# Altium footprint library OSC.PcbLib: 12 footprints
Each footprint in its own frame and in the unit in brackets; x right, y up, seen from the top. Pads: shape width x height; smd on the part's side, far side on the other; paste and mask are expansions set on the pad; w line width, h text height; cw(c..) or ccw(c..) is an arc to the next point about the centre after c.
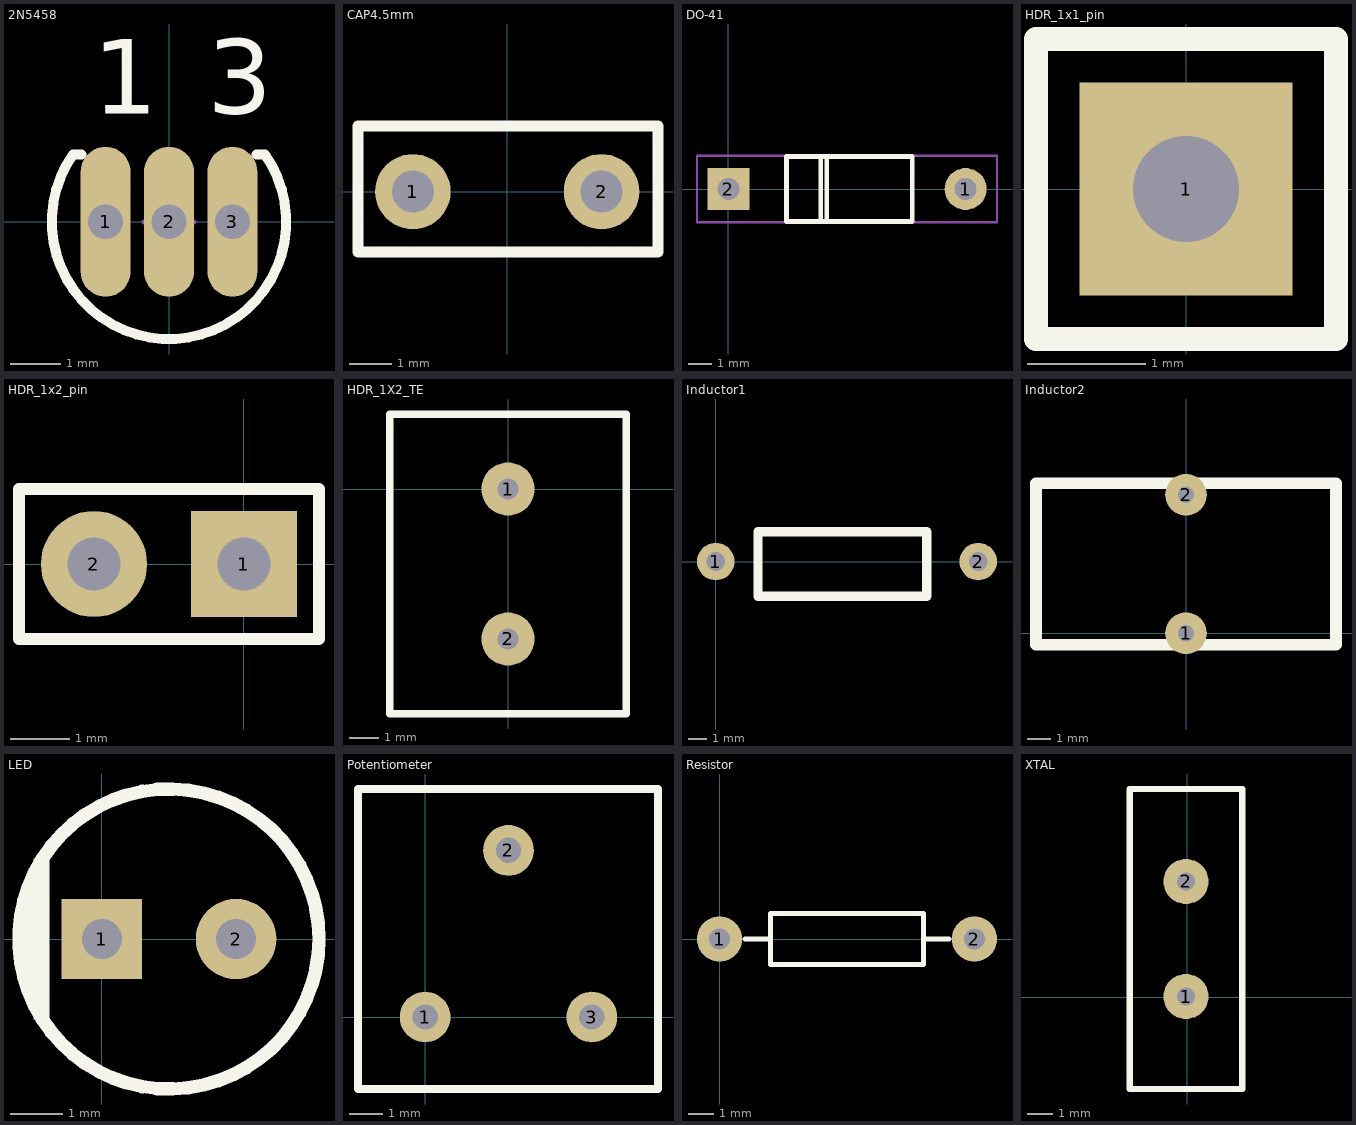
[diagram p0: the footprints below, top view; thin cyan lines are the x and y axes]

## 2N5458 [mm] "Jfet"
pads (3):
  oval 1x3 hole 0.7: 1(-1.27,0) 2(0,0) 3(1.27,0)
Top Overlay:
  lines w0.2: -1.75,1.35 -1.92,1.35 ccw(c0,0) 1.92,1.35 1.75,1.35
  text "3" at 0.762,2.159 h1.5
  text "1" at -1.524,2.159 h1.5
Mechanical 15:
  lines w0.1: -0.5,0 0.5,0 ; 0,-0.5 0,0.5

## CAP4.5mm [mm]
pads (2):
  round 1.8 hole 1: 1(-2.25,0) 2(2.25,0)
Top Overlay:
  lines w0.254: -3.559,-1.438 3.597,-1.438 3.597,1.566 -3.559,1.566 -3.559,-1.438
3D body "c320c104k1r5ta.stp": height 7.36, standoff -7, extent -2.54,-1.515 2.54,1.67

## DO-41 [mm]
pads (2):
  round 1.8 hole 0.94: 1(10.2,0)
  rect 1.8x1.8 hole 0.94: 2(0,0)
Top Overlay:
  lines w0.2: 3.972,-1.4 3.972,1.4 ; 4.222,-1.4 4.222,1.4 ; 7.9,-1.4 2.5,-1.4 2.5,1.4 7.9,1.4 7.9,-1.397
Mechanical 15:
  lines w0.1: -1.35,-1.425 -1.35,1.425 11.55,1.425 11.55,-1.425 -1.35,-1.425

## HDR_1x1_pin [mm]
pads (1):
  rect 1.8x1.8 hole 0.9: 1(0,0)
Top Overlay:
  lines w0.2: -1.27,-1.27 1.27,-1.27 1.27,1.27 -1.27,1.27 -1.27,-1.27

## HDR_1x2_pin [mm]
pads (2):
  rect 1.8x1.8 hole 0.9: 1(0,0)
  round 1.8 hole 0.9: 2(-2.54,0)
Top Overlay:
  lines w0.2: -3.81,-1.27 -3.81,1.27 1.27,1.27 1.27,-1.27 -3.81,-1.27

## HDR_1X2_TE [mm] "282836-2"
pads (2):
  round 1.8 hole 0.7: 1(0,0) 2(0,-5.08)
Top Overlay:
  lines w0.254: -4,-7.62 -4,2.54 4,2.54 4,-7.62 -4,-7.62

## Inductor1 [mm]
pads (2):
  round 2 hole 1: 1(0,0) 2(14,0)
Top Overlay:
  lines w0.5: 2.25,-1.84 2.25,1.58 11.25,1.58 11.25,-1.84 2.25,-1.84

## Inductor2 [mm]
pads (2):
  round 1.8 hole 0.7: 1(0,0) 2(0,6)
Top Overlay:
  lines w0.5: -6.5,-0.5 -6.5,6.5 6.5,6.5 6.5,-0.5 -6.5,-0.5

## LED [mil]
pads (2):
  rect 60x60 hole 30: 1(0,0)
  round 60 hole 30: 2(100,0)
Top Overlay:
  circle w10: c50,0 r111.8
  rectangle: -51,-60 -39,60
  rectangle: -58,-40 -50,41

## Potentiometer [mil]
pads (3):
  round 60 hole 30: 1(0,0) 2(98.43,196.85) 3(196.85,0)
Top Overlay:
  lines w10: -79.33,-85 -79.33,269.33 275,269.33 275,-85 -79.33,-85

## Resistor [mm] "Res_2mm_AxialTH"
pads (2):
  round 1.8 hole 0.85: 1(0,0) 2(10.16,0)
Top Overlay:
  lines w0.2: 1.016,0 2.032,0 ; 8.128,0 9.144,0 ; 2.032,-1.016 8.128,-1.016 8.128,1.016 2.032,1.016 2.032,-1.016
3D body "User Library-Res40-Axial 0_25W-0_12R.STEP": height 2.41, standoff -2, extent -0.3,-1.191 10.46,1.191

## XTAL [mm]
pads (2):
  round 1.8 hole 0.7: 1(-0.051,0.023) 2(-0.051,4.623)
Top Overlay:
  lines w0.254: -2.301,-3.677 -2.301,8.323 2.199,8.323 2.199,-3.677 -2.301,-3.677